# Altium footprint library Vishay Roederstein Footprints.PcbLib: 150 footprints (part 6 of 10)
Each footprint in its own frame and in the unit in brackets; x right, y up, seen from the top. Pads: shape width x height; smd on the part's side, far side on the other; paste and mask are expansions set on the pad; w line width, h text height; cw(c..) or ccw(c..) is an arc to the next point about the centre after c.
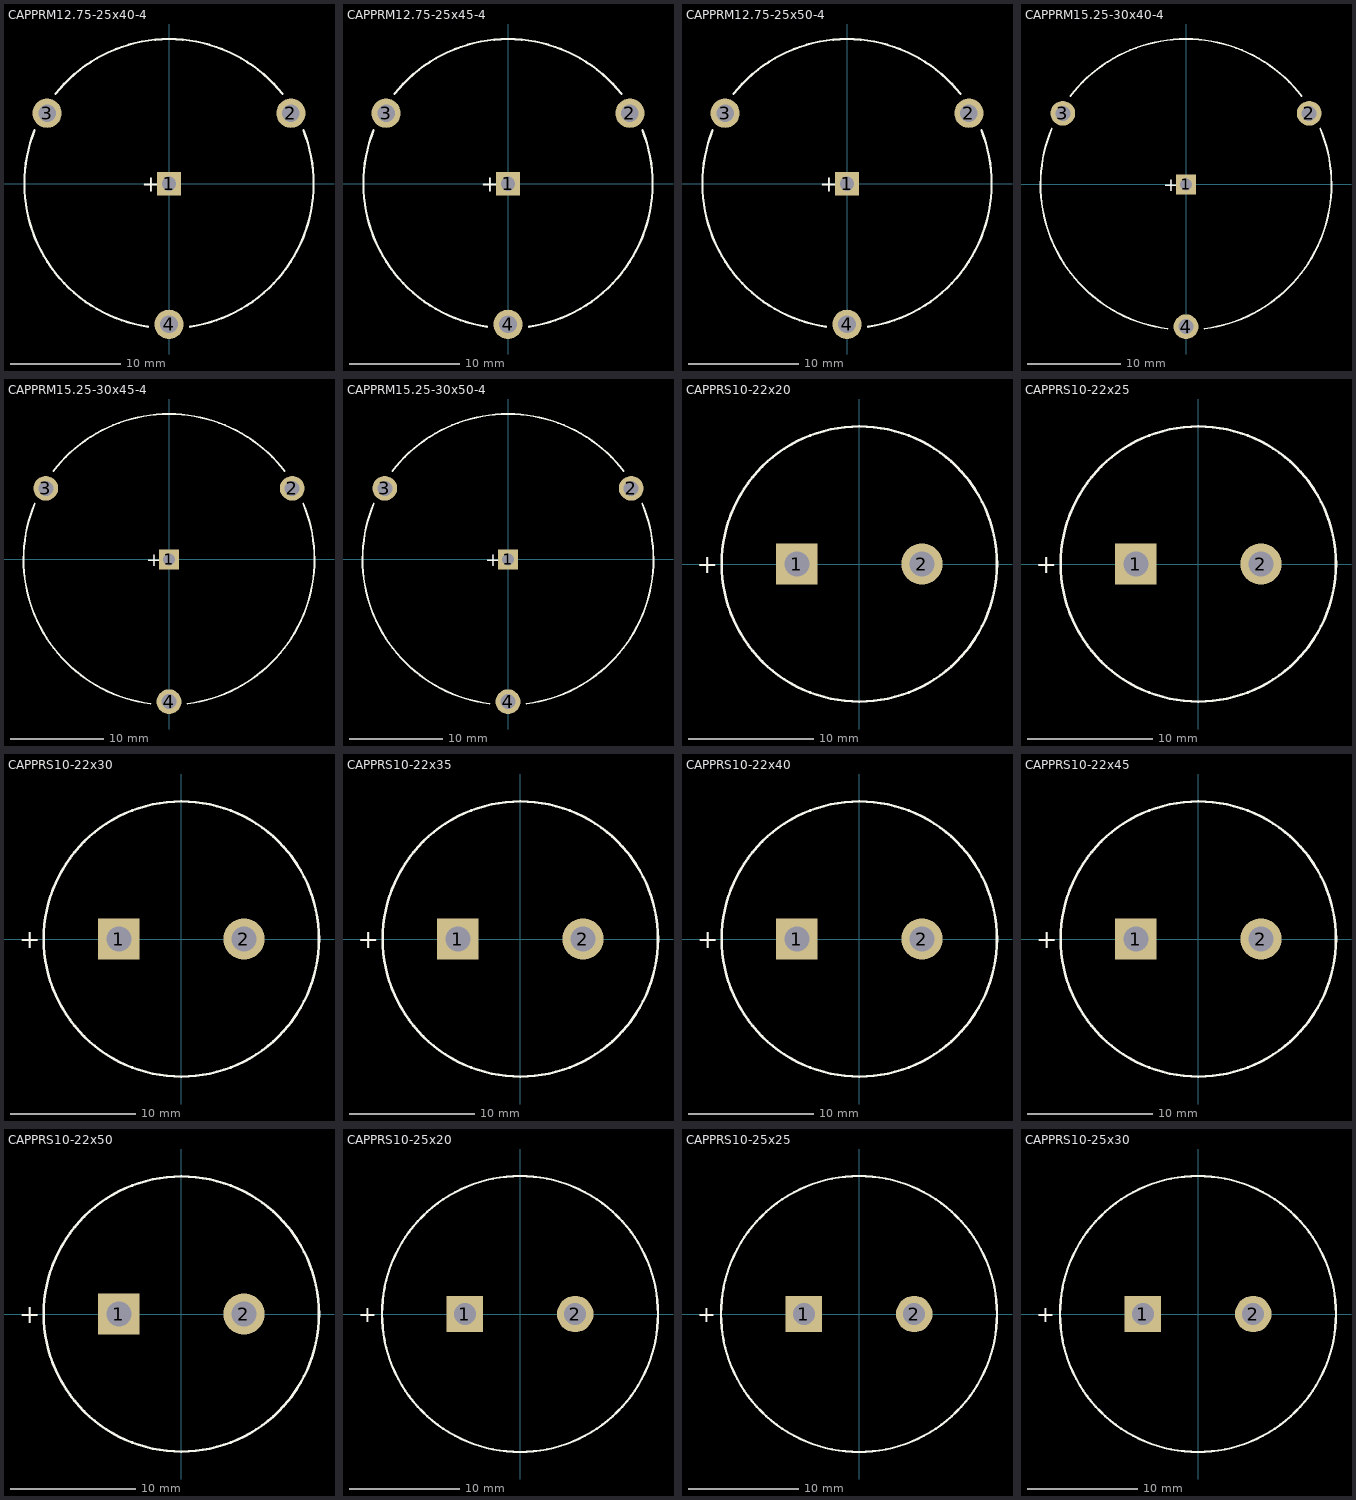
[diagram p5: the footprints below, top view; thin cyan lines are the x and y axes]

## CAPPRM12.75-25x40-4 [mm] "Capacitor, Electrolytic, Radial, Solder Ring; Body 25 x 40 mm (Dia.xH typ); Pin Spacing 12.75 mm (typ)"
height 42
pads (4):
  rect 2.15x2.15 hole 1.3: 1(0,0)
  round 2.65 hole 1.6: 2(11.042,6.375) 3(-11.042,6.375) 4(0,-12.75)
Top Overlay:
  lines w0.2: -12.176,4.832 ccw(c0,0) -1.904,-12.961 ; -10.273,8.129 cw(c0,0) 10.273,8.129 ; 1.904,-12.961 ccw(c0,0) 12.176,4.832
  text "+" at -2.45,-0.75 h1.5

## CAPPRM12.75-25x45-4 [mm] "Capacitor, Electrolytic, Radial, Solder Ring; Body 25 x 45 mm (Dia.xH typ); Pin Spacing 12.75 mm (typ)"
height 48
pads (4):
  rect 2.15x2.15 hole 1.3: 1(0,0)
  round 2.65 hole 1.6: 2(11.042,6.375) 3(-11.042,6.375) 4(0,-12.75)
Top Overlay:
  lines w0.2: -12.176,4.832 ccw(c0,0) -1.904,-12.961 ; -10.273,8.129 cw(c0,0) 10.273,8.129 ; 1.904,-12.961 ccw(c0,0) 12.176,4.832
  text "+" at -2.45,-0.75 h1.5

## CAPPRM12.75-25x50-4 [mm] "Capacitor, Electrolytic, Radial, Solder Ring; Body 25 x 50 mm (Dia.xH typ); Pin Spacing 12.75 mm (typ)"
height 53
pads (4):
  rect 2.15x2.15 hole 1.3: 1(0,0)
  round 2.65 hole 1.6: 2(11.042,6.375) 3(-11.042,6.375) 4(0,-12.75)
Top Overlay:
  lines w0.2: -12.176,4.832 ccw(c0,0) -1.904,-12.961 ; -10.273,8.129 cw(c0,0) 10.273,8.129 ; 1.904,-12.961 ccw(c0,0) 12.176,4.832
  text "+" at -2.45,-0.75 h1.5

## CAPPRM15.25-30x40-4 [mm] "Capacitor, Electrolytic, Radial, Solder Ring; Body 30 x 40 mm (Dia.xH typ); Pin Spacing 15.25 mm (typ)"
height 42
pads (4):
  rect 2.15x2.15 hole 1.3: 1(0,0)
  round 2.65 hole 1.6: 2(13.207,7.625) 3(-13.207,7.625) 4(0,-15.25)
Top Overlay:
  lines w0.2: -14.394,6.014 ccw(c0,0) -1.989,-15.473 ; -12.405,9.459 cw(c0,0) 12.405,9.459 ; 1.989,-15.473 ccw(c0,0) 14.394,6.014
  text "+" at -2.45,-0.75 h1.5

## CAPPRM15.25-30x45-4 [mm] "Capacitor, Electrolytic, Radial, Solder Ring; Body 30 x 45 mm (Dia.xH typ); Pin Spacing 15.25 mm (typ)"
height 48
pads (4):
  rect 2.15x2.15 hole 1.3: 1(0,0)
  round 2.65 hole 1.6: 2(13.207,7.625) 3(-13.207,7.625) 4(0,-15.25)
Top Overlay:
  lines w0.2: -14.394,6.014 ccw(c0,0) -1.989,-15.473 ; -12.405,9.459 cw(c0,0) 12.405,9.459 ; 1.989,-15.473 ccw(c0,0) 14.394,6.014
  text "+" at -2.45,-0.75 h1.5

## CAPPRM15.25-30x50-4 [mm] "Capacitor, Electrolytic, Radial, Solder Ring; Body 30 x 50 mm (Dia.xH typ); Pin Spacing 15.25 mm (typ)"
height 53
pads (4):
  rect 2.15x2.15 hole 1.3: 1(0,0)
  round 2.65 hole 1.6: 2(13.207,7.625) 3(-13.207,7.625) 4(0,-15.25)
Top Overlay:
  lines w0.2: -14.394,6.014 ccw(c0,0) -1.989,-15.473 ; -12.405,9.459 cw(c0,0) 12.405,9.459 ; 1.989,-15.473 ccw(c0,0) 14.394,6.014
  text "+" at -2.45,-0.75 h1.5

## CAPPRS10-22x20 [mm] "Capacitor, Electrolytic, Radial, Snap-In Pins; Body 22 x 20 mm (Dia.xH typ); Pin Spacing 10 mm (typ)"
height 22
pads (2):
  rect 3.3x3.3 hole 2: 1(-5,0)
  round 3.3 hole 2: 2(5,0)
Top Overlay:
  circle w0.2: c0,0 r11
  text "+" at -12.975,-0.75 h1.5

## CAPPRS10-22x25 [mm] "Capacitor, Electrolytic, Radial, Snap-In Pins; Body 22 x 25 mm (Dia.xH typ); Pin Spacing 10 mm (typ)"
height 27
pads (2):
  rect 3.3x3.3 hole 2: 1(-5,0)
  round 3.3 hole 2: 2(5,0)
Top Overlay:
  circle w0.2: c0,0 r11
  text "+" at -12.975,-0.75 h1.5

## CAPPRS10-22x30 [mm] "Capacitor, Electrolytic, Radial, Snap-In Pins; Body 22 x 30 mm (Dia.xH typ); Pin Spacing 10 mm (typ)"
height 32
pads (2):
  rect 3.3x3.3 hole 2: 1(-5,0)
  round 3.3 hole 2: 2(5,0)
Top Overlay:
  circle w0.2: c0,0 r11
  text "+" at -12.975,-0.75 h1.5

## CAPPRS10-22x35 [mm] "Capacitor, Electrolytic, Radial, Snap-In Pins; Body 22 x 35 mm (Dia.xH typ); Pin Spacing 10 mm (typ)"
height 37
pads (2):
  rect 3.3x3.3 hole 2: 1(-5,0)
  round 3.3 hole 2: 2(5,0)
Top Overlay:
  circle w0.2: c0,0 r11
  text "+" at -12.975,-0.75 h1.5

## CAPPRS10-22x40 [mm] "Capacitor, Electrolytic, Radial, Snap-In Pins; Body 22 x 40 mm (Dia.xH typ); Pin Spacing 10 mm (typ)"
height 42
pads (2):
  rect 3.3x3.3 hole 2: 1(-5,0)
  round 3.3 hole 2: 2(5,0)
Top Overlay:
  circle w0.2: c0,0 r11
  text "+" at -12.975,-0.75 h1.5

## CAPPRS10-22x45 [mm] "Capacitor, Electrolytic, Radial, Snap-In Pins; Body 22 x 45 mm (Dia.xH typ); Pin Spacing 10 mm (typ)"
height 47
pads (2):
  rect 3.3x3.3 hole 2: 1(-5,0)
  round 3.3 hole 2: 2(5,0)
Top Overlay:
  circle w0.2: c0,0 r11
  text "+" at -12.975,-0.75 h1.5

## CAPPRS10-22x50 [mm] "Capacitor, Electrolytic, Radial, Snap-In Pins; Body 22 x 50 mm (Dia.xH typ); Pin Spacing 10 mm (typ)"
height 52
pads (2):
  rect 3.3x3.3 hole 2: 1(-5,0)
  round 3.3 hole 2: 2(5,0)
Top Overlay:
  circle w0.2: c0,0 r11
  text "+" at -12.975,-0.75 h1.5

## CAPPRS10-25x20 [mm] "Capacitor, Electrolytic, Radial, Snap-In Pins; Body 25 x 20 mm (Dia.xH typ); Pin Spacing 10 mm (typ)"
height 22
pads (2):
  rect 3.3x3.3 hole 2: 1(-5,0)
  round 3.3 hole 2: 2(5,0)
Top Overlay:
  circle w0.2: c0,0 r12.5
  text "+" at -14.675,-0.75 h1.5

## CAPPRS10-25x25 [mm] "Capacitor, Electrolytic, Radial, Snap-In Pins; Body 25 x 25 mm (Dia.xH typ); Pin Spacing 10 mm (typ)"
height 27
pads (2):
  rect 3.3x3.3 hole 2: 1(-5,0)
  round 3.3 hole 2: 2(5,0)
Top Overlay:
  circle w0.2: c0,0 r12.5
  text "+" at -14.675,-0.75 h1.5

## CAPPRS10-25x30 [mm] "Capacitor, Electrolytic, Radial, Snap-In Pins; Body 25 x 30 mm (Dia.xH typ); Pin Spacing 10 mm (typ)"
height 32
pads (2):
  rect 3.3x3.3 hole 2: 1(-5,0)
  round 3.3 hole 2: 2(5,0)
Top Overlay:
  circle w0.2: c0,0 r12.5
  text "+" at -14.675,-0.75 h1.5